# Altium footprint library 常用元件封装.PCBLIB: 174 footprints (part 9 of 11)
Each footprint in its own frame and in the unit in brackets; x right, y up, seen from the top. Pads: shape width x height; smd on the part's side, far side on the other; paste and mask are expansions set on the pad; w line width, h text height; cw(c..) or ccw(c..) is an arc to the next point about the centre after c.
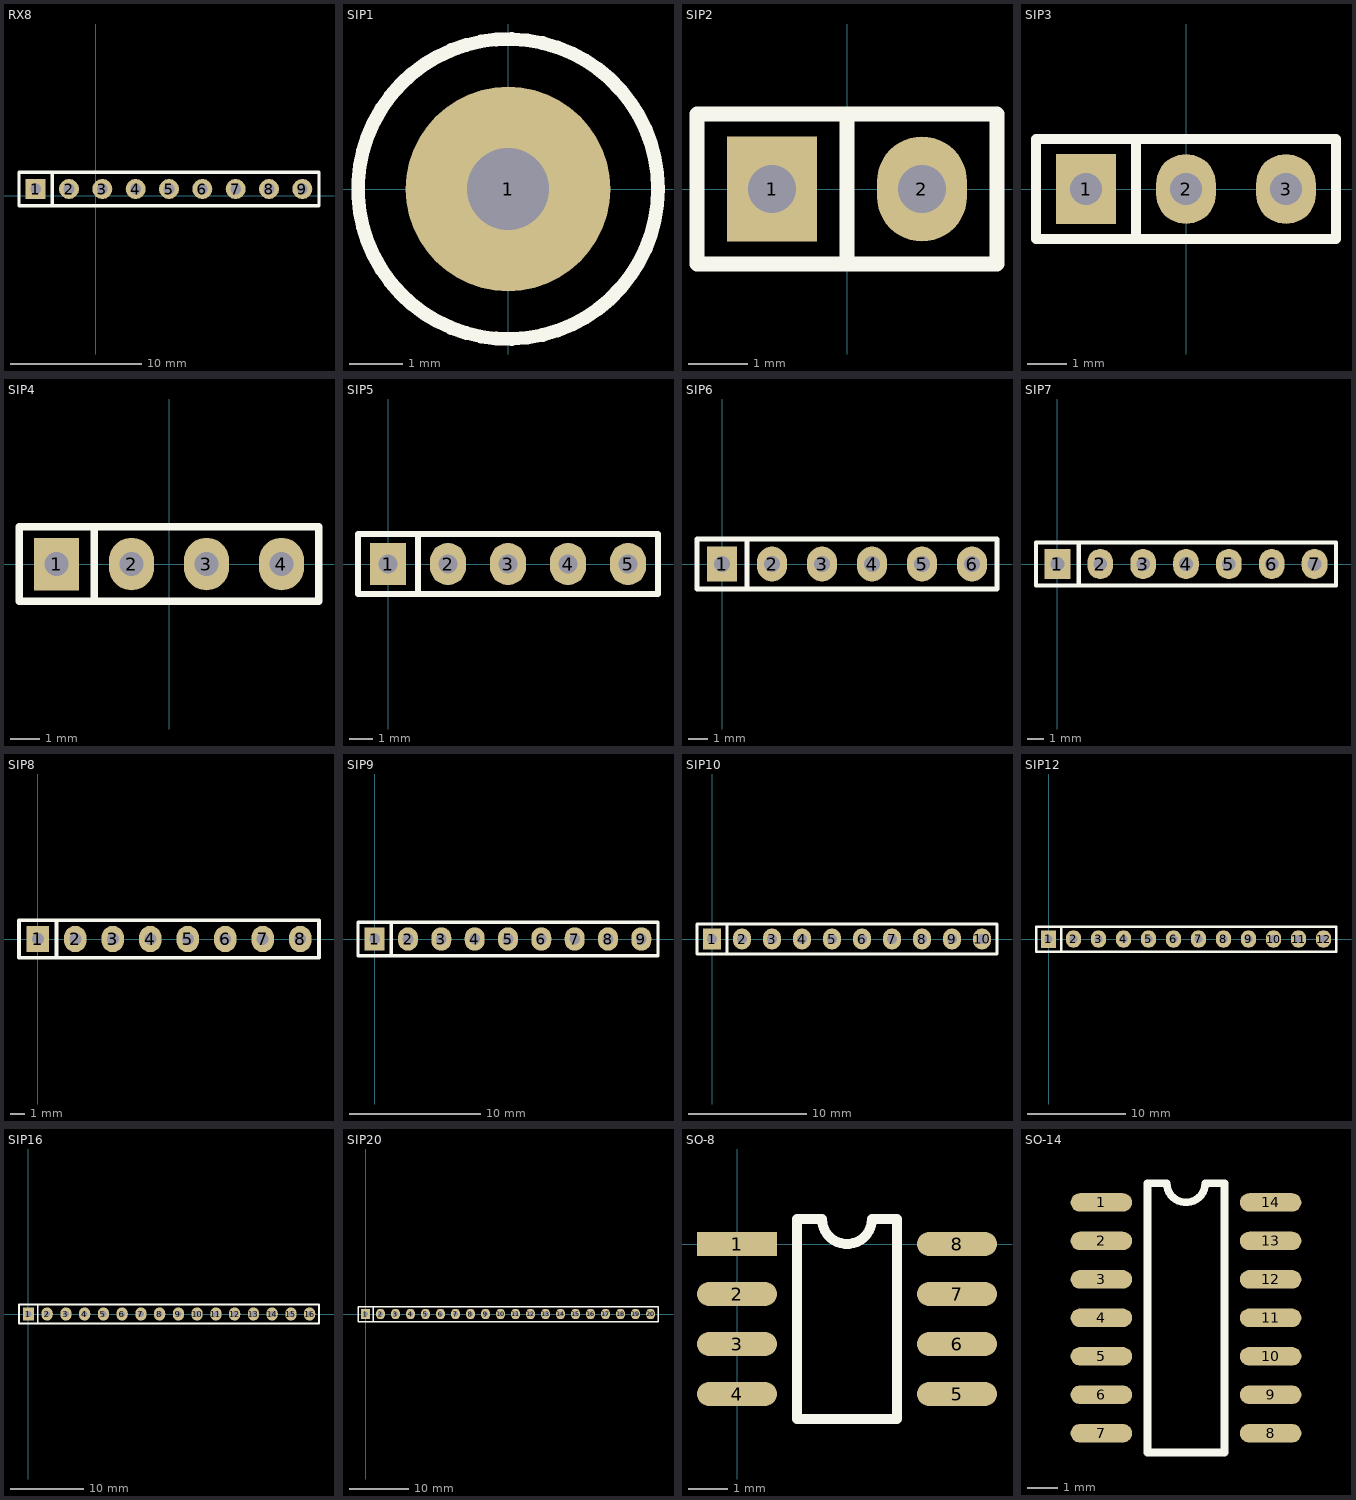
[diagram p8: the footprints below, top view; thin cyan lines are the x and y axes]

## RX8 [mil]
pads (9):
  rect 60x60 hole 32: 1(-180,20)
  round 60 hole 32: 2(-80,20) 3(20,20) 4(120,20) 5(220,20) 6(320,20) 7(420,20) 8(520,20) 9(620,20)
TopOverlay:
  lines w10: -130,-30 -130,70 ; -230,-30 -230,70 670,70 670,-30 -230,-30

## SIP1 [mil]
pads (1):
  round 150 hole 60: 1(0,0)
TopOverlay:
  circle w10: c0,0 r110

## SIP2 [mil]
pads (2):
  rect 60x70 hole 32: 1(-50,0)
  oval 60x70 hole 32: 2(50,0)
TopOverlay:
  lines w10: 0,-50 0,50 ; -100,-50 100,-50 100,50 -100,50 -100,-50

## SIP3 [mil]
pads (3):
  rect 60x70 hole 32: 1(-100,0)
  oval 60x70 hole 32: 2(0,0) 3(100,0)
TopOverlay:
  lines w10: -50,-50 -50,50 ; -150,-50 150,-50 150,50 -150,50 -150,-50

## SIP4 [mil]
pads (4):
  rect 60x70 hole 32: 1(-150,0)
  oval 60x70 hole 32: 2(-50,0) 3(50,0) 4(150,0)
TopOverlay:
  lines w10: -100,-50 -100,50 ; -200,-50 -200,50 200,50 200,-50 -200,-50

## SIP5 [mil]
pads (5):
  rect 60x70 hole 32: 1(0,0)
  oval 60x70 hole 32: 2(100,0) 3(200,0) 4(300,0) 5(400,0)
TopOverlay:
  lines w10: 50,-50 50,50 ; -50,-50 -50,50 450,50 450,-50 -50,-50

## SIP6 [mil]
pads (6):
  rect 60x70 hole 32: 1(0,0)
  oval 60x70 hole 32: 2(100,0) 3(200,0) 4(300,0) 5(400,0) 6(500,0)
TopOverlay:
  lines w10: 50,-50 50,50 ; -50,-50 550,-50 550,50 -50,50 -50,-50

## SIP7 [mil]
pads (7):
  rect 60x70 hole 32: 1(0,0)
  oval 60x70 hole 32: 2(100,0) 3(200,0) 4(300,0) 5(400,0) 6(500,0) 7(600,0)
TopOverlay:
  lines w10: 50,-50 50,50 ; -50,-50 650,-50 650,50 -50,50 -50,-50

## SIP8 [mil]
pads (8):
  rect 60x70 hole 32: 1(0,0)
  oval 60x70 hole 32: 2(100,0) 3(200,0) 4(300,0) 5(400,0) 6(500,0) 7(600,0) 8(700,0)
TopOverlay:
  lines w10: 50,-50 50,50 ; -50,-50 -50,50 750,50 750,-50 -50,-50

## SIP9 [mil]
pads (9):
  rect 60x70 hole 32: 1(0,0)
  oval 60x70 hole 32: 2(100,0) 3(200,0) 4(300,0) 5(400,0) 6(500,0) 7(600,0) 8(700,0) 9(800,0)
TopOverlay:
  lines w10: 50,-50 50,50 ; -50,-50 -50,50 850,50 850,-50 -50,-50

## SIP10 [mil]
pads (10):
  rect 60x70 hole 32: 1(0,0)
  oval 60x70 hole 32: 2(100,0) 3(200,0) 4(300,0) 5(400,0) 6(500,0) 7(600,0) 8(700,0) 9(800,0) 10(900,0)
TopOverlay:
  lines w10: 50,-50 50,50 ; -50,-50 950,-50 950,50 -50,50 -50,-50

## SIP12 [mil]
pads (12):
  rect 60x70 hole 32: 1(0,0)
  oval 60x70 hole 32: 2(100,0) 3(200,0) 4(300,0) 5(400,0) 6(500,0) 7(600,0) 8(700,0) 9(800,0) 10(900,0) 11(1000,0) 12(1100,0)
TopOverlay:
  lines w10: 50,-50 50,50 ; -50,-50 1150,-50 1150,50 -50,50 -50,-50

## SIP16 [mil]
pads (16):
  rect 60x70 hole 32: 1(0,0)
  oval 60x70 hole 32: 2(100,0) 3(200,0) 4(300,0) 5(400,0) 6(500,0) 7(600,0) 8(700,0) 9(800,0) 10(900,0) 11(1000,0) 12(1100,0) 13(1200,0) 14(1300,0) 15(1400,0) 16(1500,0)
TopOverlay:
  lines w10: 50,-50 50,50 ; -50,-50 -50,50 1550,50 1550,-50 -50,-50

## SIP20 [mil]
pads (20):
  rect 60x70 hole 32: 1(0,0)
  oval 60x70 hole 32: 2(100,0) 3(200,0) 4(300,0) 5(400,0) 6(500,0) 7(600,0) 8(700,0) 9(800,0) 10(900,0) 11(1000,0) 12(1100,0) 13(1200,0) 14(1300,0) 15(1400,0) 16(1500,0) 17(1600,0) 18(1700,0) 19(1800,0) 20(1900,0)
TopOverlay:
  lines w10: 50,-50 50,50 ; -50,-50 1950,-50 1950,50 -50,50 -50,-50

## SO-8 [mil]
pads (8):
  rect 80x24 smd: 1(0,0)
  oval 80x24 smd: 2(0,-50) 3(0,-100) 4(0,-150) 5(220,-150) 6(220,-100) 7(220,-50) 8(220,0)
TopOverlay:
  lines w10: 60,-175 60,25 85,25 ccw(c110,25) 135,25 160,25 160,-175 60,-175

## SO-14 [mil]
pads (14):
  oval 80x24 smd: 1(142,-76) 2(142,-126) 3(142,-176) 4(142,-226) 5(142,-276) 6(142,-326) 7(142,-376) 8(362,-376) 9(362,-326) 10(362,-276) 11(362,-226) 12(362,-176) 13(362,-126) 14(362,-76)
TopOverlay:
  lines w10: 202,-401 302,-401 302,-51 277,-51 cw(c252,-51) 227,-51 202,-51 202,-401